# Altium footprint library SmartDoor.PcbLib: 29 footprints (part 2 of 2)
Each footprint in its own frame and in the unit in brackets; x right, y up, seen from the top. Pads: shape width x height; smd on the part's side, far side on the other; paste and mask are expansions set on the pad; w line width, h text height; cw(c..) or ccw(c..) is an arc to the next point about the centre after c.
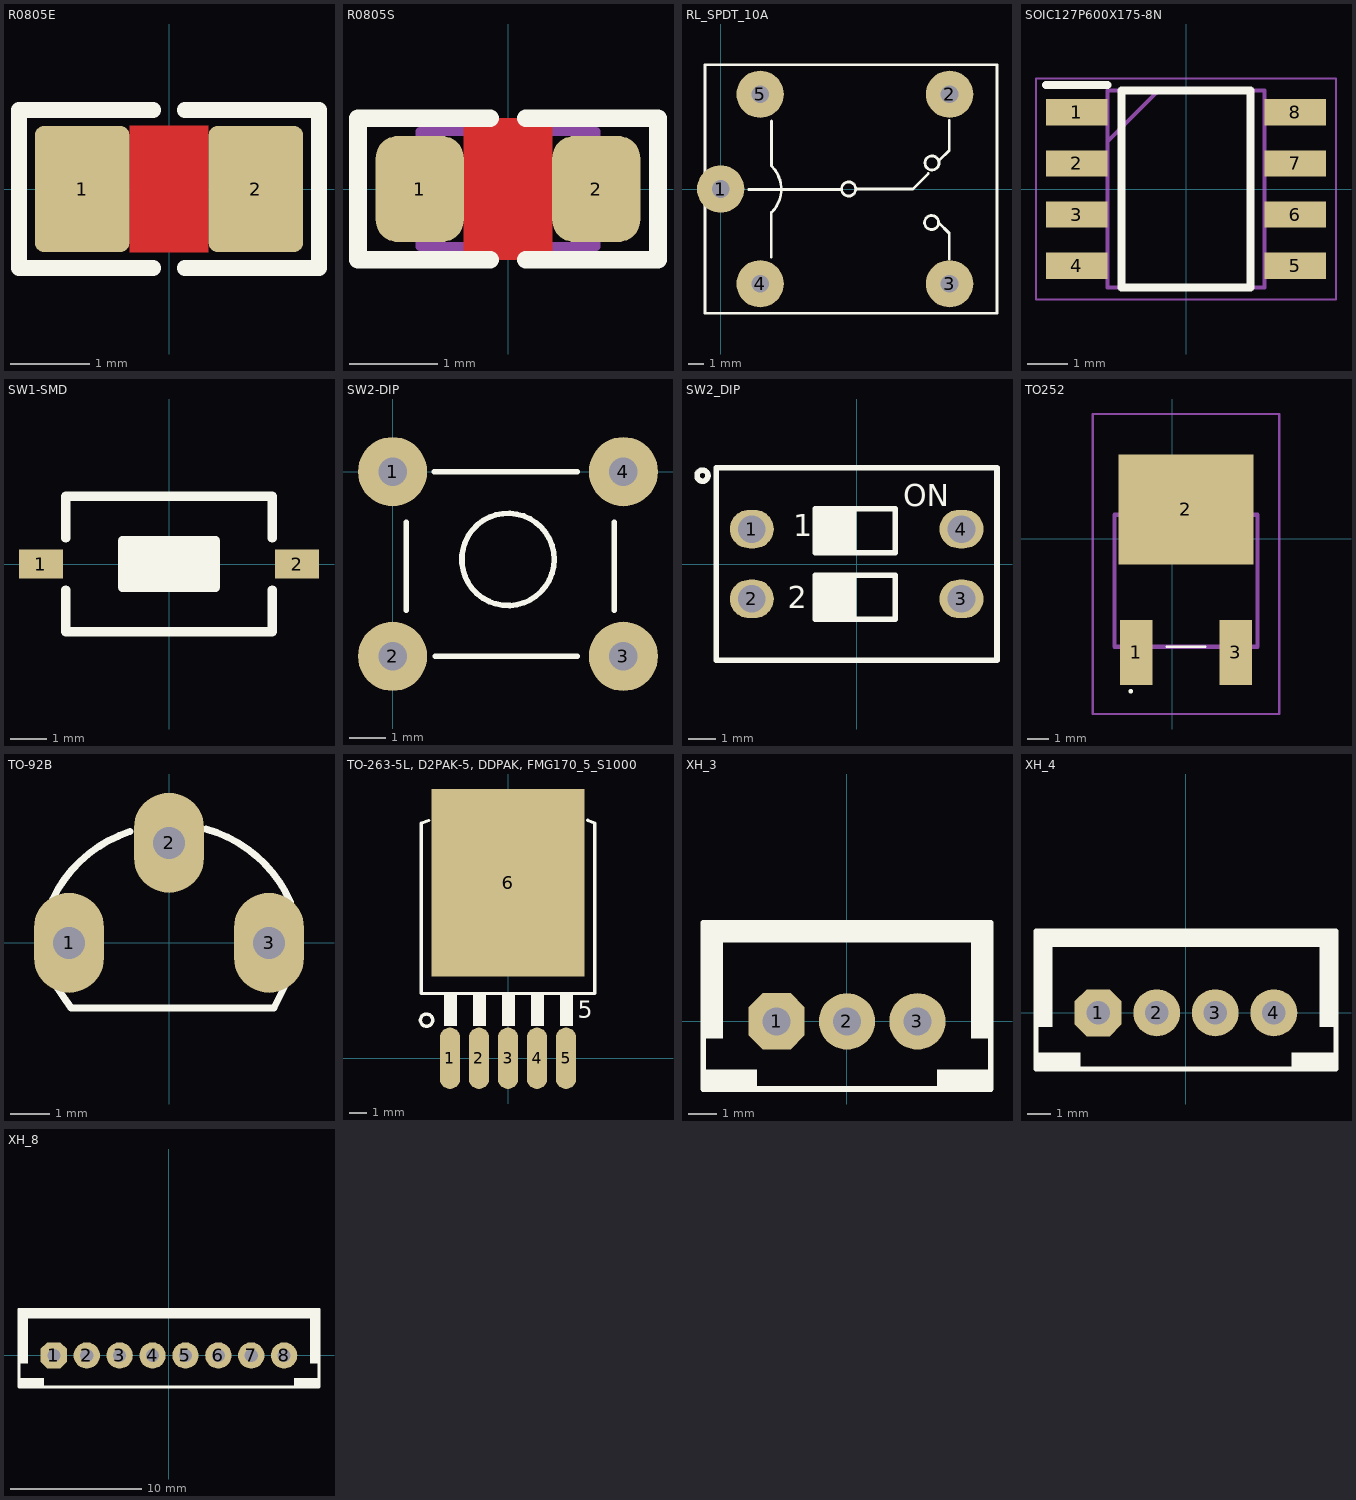
[diagram p1: the footprints below, top view; thin cyan lines are the x and y axes]

## R0805E [mm] "CHIP RESISTOR 1/8 WATT ,2.0X1.3mm, 0805, EXPANDED PAD"
height 10.16
pads (2):
  rrect20% 1.2x1.6 smd mask+0.1: 1(-1.1,0) 2(1.1,0)
Top Layer:
  pour cut-out: -0.5,0.8 0.5,0.8 0.5,-0.8 -0.5,-0.8
Top Overlay:
  lines w0.2: -0.2,-1 -1.9,-1 -1.9,1 -0.2,1 ; 0.2,-1 1.9,-1 1.9,1 0.2,1
3D body "User Library-RES_2013-0805.step": height 0.76, standoff 0, extent -1.15,-0.675 1.15,0.675

## R0805S [mm] "CHIP RESISTOR 1/8 WATT ,2.0X1.3mm, 0805, 2012, soldered"
height 10.16
pads (2):
  rrect50% 1x1.2 smd mask+0.05: 1(-1,0) 2(1,0)
Top Layer:
  pour cut-out: -0.5,0.8 0.5,0.8 0.5,-0.8 -0.5,-0.8
Top Overlay:
  lines w0.2: -0.2,-0.8 -1.7,-0.8 -1.7,0.8 -0.2,0.8 ; 0.2,-0.8 1.7,-0.8 1.7,0.8 0.2,0.8
Mechanical 13:
  lines w0.1: -1,-0.65 1,-0.65 1,0.65 -1,0.65 -1,-0.65
3D body "r0805_Res1.step": height 0.8, standoff 0, extent -1.4,-0.625 1.4,0.625

## RL_SPDT_10A [mil] "Relay SPDT, 5 pin, 10A,W 650mil, L 800mil, H 800mil"
height 800
pads (5):
  round 120 hole 45: 1(0,0) 2(580,240) 3(580,-240) 4(100,-240) 5(100,240)
Top Overlay:
  circle w7: c534.2,-85 r17.8
  circle w7: c535.2,66 r17.8
  circle w7: c324.2,0 r17.8
  lines w7: 71,-1 304,-1 ; 128,-173 128,-60 ; 129,-59 ccw(c71.5,-0.5) 130,57 ; 129,58 129,172 ; 344,0 487,0 526,39 ; 552,-85 579,-112 579,-178 ; 553,72 579,98 579,174 ; -40,-315 -40,315 700,315 700,-315 -40,-315
3D body: height 629.92, standoff 19.68, extent -40,-315 700,315
3D body: height 39.37, standoff -78.74, extent 84.38,224.29 115.75,255.73
3D body: height 39.37, standoff -78.74, extent -15.62,-15.71 15.75,15.73
3D body: height 39.37, standoff -78.74, extent 84.38,-255.71 115.75,-224.27
3D body: height 39.37, standoff -78.74, extent 564.38,-255.71 595.75,-224.27
3D body: height 39.37, standoff -78.74, extent 564.38,224.29 595.75,255.73

## SOIC127P600X175-8N [mm]
pads (8):
  rect 1.525x0.65 smd: 1(-2.712,1.905) 2(-2.712,0.635) 3(-2.712,-0.635) 4(-2.712,-1.905) 5(2.712,-1.905) 6(2.712,-0.635) 7(2.712,0.635) 8(2.712,1.905)
Top Overlay:
  lines w0.2: -3.475,2.58 -1.95,2.58 ; -1.6,-2.45 1.6,-2.45 1.6,2.45 -1.6,2.45 -1.6,-2.45
Mechanical 13:
  lines w0.1: -1.95,1.18 -0.68,2.45 ; -1.95,-2.45 1.95,-2.45 1.95,2.45 -1.95,2.45 -1.95,-2.45
Mechanical 15:
  lines w0.05: -3.725,-2.75 3.725,-2.75 3.725,2.75 -3.725,2.75 -3.725,-2.75
3D body "NE555DR.stp": height 1.75, standoff 0, extent -3,-2.45 3,2.45

## SW1-SMD [mm]
height 10.16
pads (2):
  rect 1.2x0.8 smd: 1(-3.5,0) 2(3.5,0)
Top Overlay:
  rectangle: -1.27,-0.635 1.27,0.635
  lines w0.254: -2.819,-0.711 -2.819,-1.854 2.819,-1.854 2.819,-0.711 ; -2.819,0.711 -2.819,1.854 2.819,1.854 2.819,0.711 ; -1.27,-0.635 1.27,-0.635 1.27,0.635 -1.27,0.635 -1.27,-0.635
3D body "User Library-Button-SMD.step": height 2.5, standoff 0, extent -3.05,-1.85 3.05,1.85

## SW2-DIP [mil] "SW button 4pin, 250 x250 mil"
height 100
pads (4):
  round 75 hole 31: 1(0,0) 2(0,-200) 3(250,-200) 4(250,0)
Top Overlay:
  circle w6: c125,-95 r50
  lines w6: 15,-150 15,-55 ; 45,0 200,0 ; 46,-200 200,-200 ; 240,-150 240,-55
  lines w7: 239,-215 240,-214
3D body "SW3dPS-.STEP": height 275.59, standoff -137.8, extent -35.51,-220 275.51,24.09

## SW2_DIP [mm] "SWITCH DIP 2POS, THD, 2.54mm, SD02"
height 6.5
pads (4):
  oval 1.6x1.4 / inner round 1.4 / far side oval 2.2x1.4 hole 1: 1(-3.81,1.27) 2(-3.81,-1.27) 3(3.81,-1.27) 4(3.81,1.27)
Top Overlay:
  circle w0.2: c-5.6,3.21 r0.2
  rectangle: -1.5,-2 0,-0.4
  rectangle: -1.5,0.4 0,2
  lines w0.2: -5.1,-3.5 5.1,-3.5 5.1,3.5 -5.1,3.5 -5.1,-3.5 ; -1.5,-2 -1.5,-0.4 1.4,-0.4 1.4,-2 -1.5,-2 ; -1.5,0.4 -1.5,2 1.4,2 1.4,0.4 -1.5,0.4
  text "ON" at 1.7,2.1 h0.8
  text "1" at -2.3,1 h0.8
  text "2" at -2.5,-1.6 h0.8
3D body "SSGM120100.STEP": height 5, standoff -3, extent -4.704,-3.45 4.704,3.45

## TO252 [mm]
height 10.16
pads (3):
  rect 1.5x3 smd: 1(-1.661,-5.247) 3(2.911,-5.247)
  rect 6.25x5.08 smd: 2(0.625,1.353)
Top Overlay:
  lines w0.1: -0.275,-4.995 1.525,-4.995 ; -1.975,-7.047 ccw(c-1.925,-7.047) -1.875,-7.047 ccw(c-1.925,-7.047) -1.975,-7.047
Mechanical 13:
  lines w0.2: -2.677,-4.995 3.927,-4.995 3.927,1.101 -2.677,1.101 -2.677,-4.995
Mechanical 15:
  lines w0.1: -3.677,-8.097 4.927,-8.097 4.927,5.753 -3.677,5.753 -3.677,-8.097
3D body "to252-2_p4-57_l6-73_w7-36.stp": height 2.38, standoff -0.01, extent -2.803,-6.198 3.927,4.082

## TO-92B [mil] "TO-92"
height 200
pads (3):
  oval 70x100 hole 32: 1(-100,0) 2(0,100) 3(100,0)
Top Overlay:
  lines w7: -116.52,43.21 cw(c0.97,-12.43) -38.82,111.34 ; -115.34,-40.24 -98,-65 105,-65 118,-39 ; 36.81,113.84 cw(c2.42,-11.53) 121.49,40.65

## TO-263-5L, D2PAK-5, DDPAK, FMG170_5_S1000 [mm] "TO-263-5L, D2PAK-5, DDPAK, FMG170_5_S1000"
height 10.16
pads (6):
  oval 1.2x3.6 smd: 1(-3.404,0) 2(-1.702,0) 3(0,0) 4(1.702,0) 5(3.404,0)
  rect 9x11 smd: 6(0,10.3)
Top Overlay:
  circle w0.2: c-4.779,2.24 r0.359
  rectangle: 3.048,1.9 3.81,3.764
  rectangle: 1.346,1.9 2.108,3.764
  rectangle: -0.356,1.9 0.406,3.764
  rectangle: -2.057,1.9 -1.295,3.764
  rectangle: -3.759,1.9 -2.997,3.764
  lines w0.2: -5.1,13.8 -5.1,3.8 5.1,3.8 5.1,13.8 4.684,13.958 ; -5.06,13.8 -4.658,13.952
  text "5" at 4.089,2.367 h1.02
3D body "User Library-D2PAK TO-263-5.step": height 4.87, standoff 0, extent -5.08,-0.84 5.08,13.39

## XH_3 [mm] "PW10-xx-M, JST-BxB-XH-A pitch: 2.5mm"
height 10.16
pads (3):
  oct 2x2 hole 1: 1(-2.5,0)
  round 2 hole 1: 2(0,0) 3(2.5,0)
Top Overlay:
  rectangle: -5.1,-2.4 -3.2,-1.7
  rectangle: -5.1,-0.6 -4.4,3.5
  region: -5.1,3.5 -5.1,2.8 5.1,2.8 5.1,3.5
  region: 5.1,3.5 4.4,3.5 4.4,-0.6 5.1,-0.6
  region: 5.1,-1.7 3.2,-1.7 3.2,-2.4 5.1,-2.4
  lines w0.2: -5.1,-2.4 5.1,-2.4 5.1,3.5 -5.1,3.5 -5.1,-2.4
3D body "User Library-PW10-03-M white.step": height 7, standoff -3.3, extent -5,-2.3 5,3.4

## XH_4 [mm] "PW10-xx-M, JST-BxB-XH-A pitch: 2.5mm"
height 10.16
pads (4):
  oct 2x2 hole 1: 1(-3.75,0)
  round 2 hole 1: 2(-1.25,0) 3(1.25,0) 4(3.75,0)
Top Overlay:
  rectangle: -6.4,-2.4 -4.5,-1.7
  rectangle: -6.4,-0.6 -5.7,3.5
  region: -6.4,3.5 -6.4,2.8 6.4,2.8 6.4,3.5
  region: 6.4,3.5 5.7,3.5 5.7,-0.6 6.4,-0.6
  region: 6.4,-1.7 4.5,-1.7 4.5,-2.4 6.4,-2.4
  lines w0.2: -6.4,-2.4 6.4,-2.4 6.4,3.5 -6.4,3.5 -6.4,-2.4
3D body "User Library-PW10-04-M white.step": height 7, standoff -3.3, extent -6.25,-2.3 6.25,3.4

## XH_8 [mm] "PW10-xx-M, JST-BxB-XH-A pitch: 2.5mm"
height 10.16
pads (8):
  oct 2x2 hole 1: 1(-8.75,0)
  round 2 hole 1: 2(-6.25,0) 3(-3.75,0) 4(-1.25,0) 5(1.25,0) 6(3.75,0) 7(6.25,0) 8(8.75,0)
Top Overlay:
  rectangle: -11.4,-2.4 -9.5,-1.7
  rectangle: -11.4,-0.6 -10.7,3.5
  region: -11.4,3.5 -11.4,2.8 11.4,2.8 11.4,3.5
  region: 11.4,3.5 10.7,3.5 10.7,-0.6 11.4,-0.6
  region: 11.4,-1.7 9.5,-1.7 9.5,-2.4 11.4,-2.4
  lines w0.2: -11.4,-2.4 11.4,-2.4 11.4,3.5 -11.4,3.5 -11.4,-2.4
3D body "User Library-PW10-08-M white.step": height 7, standoff -3.3, extent -11.3,-2.3 11.3,3.4